# Altium integrated library COMPUTE MODULE 4.IntLib: 1 symbol
Pins are listed as number, name and electrical type; pins without a type are passive.

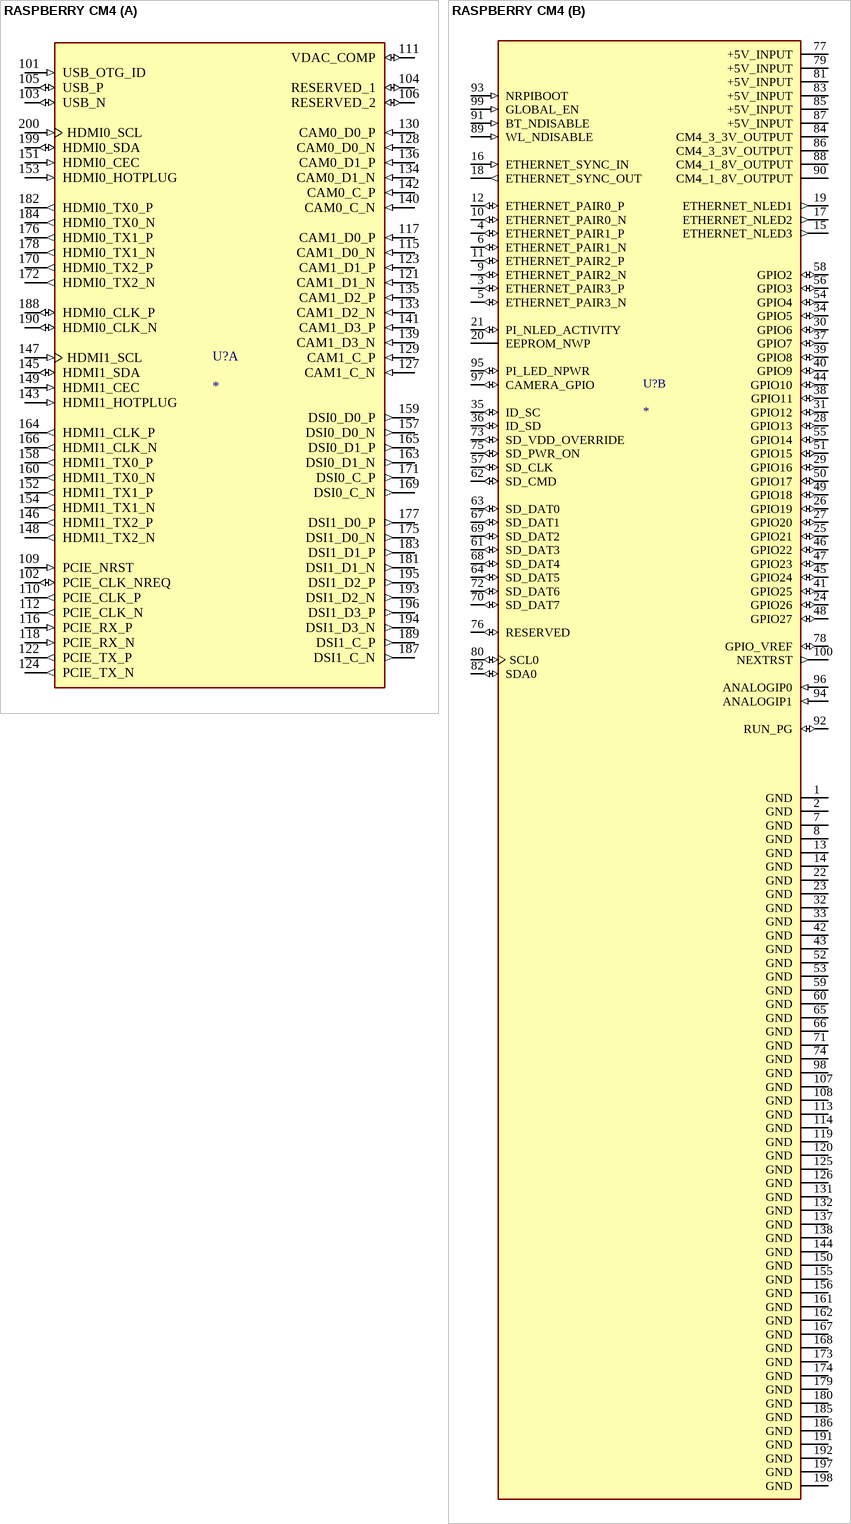
[diagram p0: symbol RASPBERRY CM4]

## RASPBERRY CM4
designator U?
Single Board Computer 1.5GHz 4 Core 8GB RAM ARMÂ® CortexÂ®-A72; MF: Raspberry Pi; MP: SC0677; SnapEDA_Link: https://www.snapeda.com/parts/SC0677/Raspberry+Pi/view-part/?ref=snap; Package: None; Value: *; Check_prices: https://www.snapeda.com/parts/SC0677/Raspberry+Pi/view-part/?ref=eda
footprint COMPUTE MODULE 4
part A pins: 101 USB_OTG_ID (in), 102 PCIE_CLK_NREQ (io), 103 USB_N (io), 104 RESERVED_1 (io), 105 USB_P (io), 106 RESERVED_2 (io), 109 PCIE_NRST (in), 110 PCIE_CLK_P (out), 111 VDAC_COMP (io), 112 PCIE_CLK_N (out), 115 CAM1_D0_N (in), 116 PCIE_RX_P (in), 117 CAM1_D0_P (in), 118 PCIE_RX_N (in), 121 CAM1_D1_N (in), 122 PCIE_TX_P (out), 123 CAM1_D1_P (in), 124 PCIE_TX_N (out), 127 CAM1_C_N (in), 128 CAM0_D0_N (in), 129 CAM1_C_P (in), 130 CAM0_D0_P (in), 133 CAM1_D2_N (in), 134 CAM0_D1_N (in), 135 CAM1_D2_P (in), 136 CAM0_D1_P (in), 139 CAM1_D3_N (in), 140 CAM0_C_N (in), 141 CAM1_D3_P (in), 142 CAM0_C_P (in), 143 HDMI1_HOTPLUG (in), 145 HDMI1_SDA (io), 146 HDMI1_TX2_P (out), 147 HDMI1_SCL (in), 148 HDMI1_TX2_N (out), 149 HDMI1_CEC (in), 151 HDMI0_CEC (in), 152 HDMI1_TX1_P (out), 153 HDMI0_HOTPLUG (in), 154 HDMI1_TX1_N (out), 157 DSI0_D0_N (out), 158 HDMI1_TX0_P (out), 159 DSI0_D0_P (out), 160 HDMI1_TX0_N (out), 163 DSI0_D1_N (out), 164 HDMI1_CLK_P (out), 165 DSI0_D1_P (out), 166 HDMI1_CLK_N (out), 169 DSI0_C_N (out), 170 HDMI0_TX2_P (out), 171 DSI0_C_P (out), 172 HDMI0_TX2_N (out), 175 DSI1_D0_N (out), 176 HDMI0_TX1_P (out), 177 DSI1_D0_P (out), 178 HDMI0_TX1_N (out), 181 DSI1_D1_N (out), 182 HDMI0_TX0_P (out), 183 DSI1_D1_P (out), 184 HDMI0_TX0_N (out), 187 DSI1_C_N (out), 188 HDMI0_CLK_P (io), 189 DSI1_C_P (out), 190 HDMI0_CLK_N (io), 193 DSI1_D2_N (out), 194 DSI1_D3_N (out), 195 DSI1_D2_P (out), 196 DSI1_D3_P (out), 199 HDMI0_SDA (io), 200 HDMI0_SCL (in)
part B pins: 1 GND (power), 2 GND (power), 3 ETHERNET_PAIR3_P (io), 4 ETHERNET_PAIR1_P (io), 5 ETHERNET_PAIR3_N (io), 6 ETHERNET_PAIR1_N (io), 7 GND (power), 8 GND (power), 9 ETHERNET_PAIR2_N (io), 10 ETHERNET_PAIR0_N (io), 11 ETHERNET_PAIR2_P (io), 12 ETHERNET_PAIR0_P (io), 13 GND (power), 14 GND (power), 15 ETHERNET_NLED3 (out), 16 ETHERNET_SYNC_IN (in), 17 ETHERNET_NLED2 (out), 18 ETHERNET_SYNC_OUT (out), 19 ETHERNET_NLED1 (out), 20 EEPROM_NWP, 21 PI_NLED_ACTIVITY (io), 22 GND (power), 23 GND (power), 24 GPIO26 (io), 25 GPIO21 (io), 26 GPIO19 (io), 27 GPIO20 (io), 28 GPIO13 (io), 29 GPIO16 (io), 30 GPIO6 (io), 31 GPIO12 (io), 32 GND (power), 33 GND (power), 34 GPIO5 (io), 35 ID_SC (io), 36 ID_SD (io), 37 GPIO7 (io), 38 GPIO11 (io), 39 GPIO8 (io), 40 GPIO9 (io), 41 GPIO25 (io), 42 GND (power), 43 GND (power), 44 GPIO10 (io), 45 GPIO24 (io), 46 GPIO22 (io), 47 GPIO23 (io), 48 GPIO27 (io), 49 GPIO18 (io), 50 GPIO17 (io), 51 GPIO15 (io), 52 GND (power), 53 GND (power), 54 GPIO4 (io), 55 GPIO14 (io), 56 GPIO3 (io), 57 SD_CLK (io), 58 GPIO2 (io), 59 GND (power), 60 GND (power), 61 SD_DAT3 (io), 62 SD_CMD (io), 63 SD_DAT0 (io), 64 SD_DAT5 (io), 65 GND (power), 66 GND (power), 67 SD_DAT1 (io), 68 SD_DAT4 (io), 69 SD_DAT2 (io), 70 SD_DAT7 (io), 71 GND (power), 72 SD_DAT6 (io), 73 SD_VDD_OVERRIDE (io), 74 GND (power), 75 SD_PWR_ON (io), 76 RESERVED (io), 77 +5V_INPUT (power), 78 GPIO_VREF (io), 79 +5V_INPUT (power), 80 SCL0 (io), 81 +5V_INPUT (power), 82 SDA0 (io), 83 +5V_INPUT (power), 84 CM4_3_3V_OUTPUT (power), 85 +5V_INPUT (power), 86 CM4_3_3V_OUTPUT (power), 87 +5V_INPUT (power), 88 CM4_1_8V_OUTPUT (power), 89 WL_NDISABLE (in), 90 CM4_1_8V_OUTPUT (power), 91 BT_NDISABLE (in), 92 RUN_PG (io), 93 NRPIBOOT (in), 94 ANALOGIP1 (in), 95 PI_LED_NPWR (io), 96 ANALOGIP0 (in), 97 CAMERA_GPIO (io), 98 GND (power), 99 GLOBAL_EN (in), 100 NEXTRST (out), 107 GND (power), 108 GND (power), 113 GND (power), 114 GND (power), 119 GND (power), 120 GND (power), 125 GND (power), 126 GND (power), 131 GND (power), 132 GND (power), 137 GND (power), 138 GND (power), 144 GND (power), 150 GND (power), 155 GND (power), 156 GND (power), 161 GND (power), 162 GND (power), 167 GND (power), 168 GND (power), 173 GND (power), 174 GND (power), 179 GND (power), 180 GND (power), 185 GND (power), 186 GND (power), 191 GND (power), 192 GND (power), 197 GND (power), 198 GND (power)